# Altium schematic symbol library RC_ControllerV.2.SchLib: 52 symbols (part 1 of 2)
Pins are listed as number, name and electrical type; pins without a type are passive.

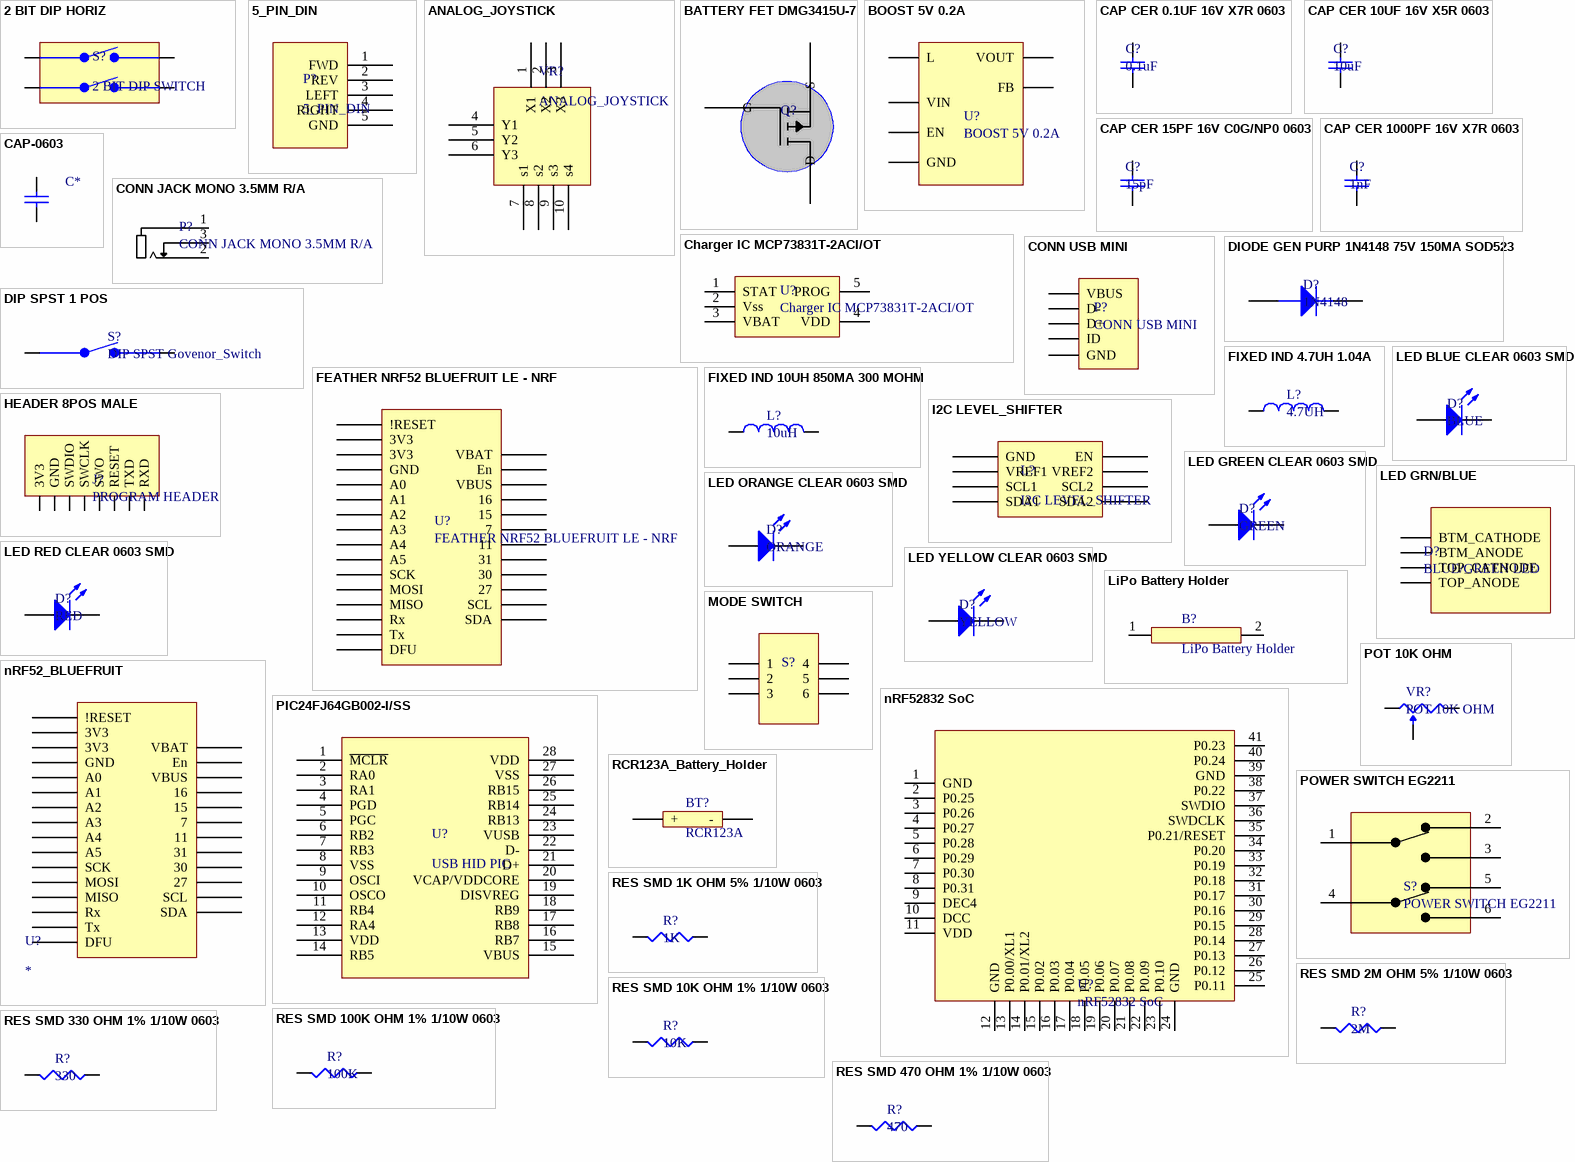
[diagram p0: symbols 2 BIT DIP HORIZ to RES SMD 470 OHM 1% 1/10W 0603]

## 2 BIT DIP HORIZ
designator S?, comment 2 BIT DIP SWITCH
SWITCH RAISED ACTUATOR 2 SEC 50V; Manufacturer: CTS; Manufacturer Part Number: 209-2MS; Throw Configuration: SPST; Current Rating: 100mA; Voltage Rating (DC): 20V; Number of Positions: 2; Electrical Life: 2000Cycles; Pitch: 0.1inch; Washable: No; Supplier 1: Digi-Key; Stock 1: 2731; Pricing 1: 1=0.55, 10=0.538, 25=0.5068, 50=0.4758, 100=0.4551, 250=0.4344, 500=0.39302, 1000=0.36199, 5000=0.29476 (USD); Mount: Through Hole; Contact Material: Copper; Contact Plating: Tin,Gold; Min Operating Temperature: -40°C; Max Operating Temperature: 85°C; Packaging: Rail/Tube; Package Quantity: 85; Max Current Rating: 100mA; Termination: PC Pin; Orientation: Straight; Length: 0.258inch; Terminal Pitch: 2.54mm; Depth: 8mm; Radiation Hardening: No; Lead Free: Lead Free; ComponentLink1URL: https://datasheet.ciiva.com/29881/209-210-29881865.pdf; ComponentLink1Description: https://datasheet.ciiva.com/29881/209-210-29881865.pdf; ComponentLink2URL: https://datasheet.ciiva.com/2863/209-210-2863466.pdf; ComponentLink2Description: https://datasheet.ciiva.com/2863/209-210-2863466.pdf; ComponentLink3URL: https://datasheet.ciiva.com/16213/209-210-16213770.pdf; ComponentLink3Description: https://datasheet.ciiva.com/16213/209-210-16213770.pdf
footprint 2 BIT DIP HORIZ
pins: 1, 2, 3, 4

## 5_PIN_DIN
designator P?
5 Position Circular Connector Receptacle, Female Sockets Solder Tin; Manufacturer: CUI; Manufacturer Part Number: SDS-50J; Current Rating: 1A; Connector Type: Jack; Number of Positions: 5; Shielding: Unshielded; Supplier 1: Digi-Key; Stock 1: 10312; Pricing 1: 1=1.57, 10=1.421, 25=1.334, 50=1.276, 100=1.218, 250=1.102, 500=1.015, 1000=0.87, 2500=0.812 (USD); Mount: Through Hole; Contact Plating: Tin; Contact Material: Brass; Insulation Material: Plastic; Min Operating Temperature: -40°C; Max Operating Temperature: 85°C; Fastening Type: Push,Pull; Packaging: Bulk; Termination: Solder; Orientation: Horizontal; Number of Contacts: 5; Package Quantity: 250; Lead Free: Lead Free; ComponentLink1URL: https://datasheet.ciiva.com/16485/sds001-16485548.pdf; ComponentLink1Description: https://datasheet.ciiva.com/16485/sds001-16485548.pdf; Supplier Part Number 1: CP-2350-ND
footprint 5_PIN_DIN
pins: 1 FWD, 2 REV, 3 LEFT, 4 RIGHT, 5 GND

## ANALOG_JOYSTICK
designator VR?
Analog Joystick; Manufacturer: SparkFun; Manufacturer Part Number: COM-09032; Supplier 1: Digi-Key; Stock 1: 679; Pricing 1: 1=3.95 (USD); ComponentLink1URL: http://media.digikey.com/pdf/Data%20Sheets/Sparkfun%20PDFs/COM-09032_Web.pdf; ComponentLink1Description: http://media.digikey.com/pdf/Data%20Sheets/Sparkfun%20PDFs/COM-09032_Web.pdf; Supplier Part Number 1: 1568-1526-ND
footprint ANALOG_JOYSTICK
pins: 1 X1, 2 X2, 3 X3, 4 Y1, 5 Y2, 6 Y3, 7 s1, 8 s2, 9 s3, 10 s4

## BATTERY FET DMG3415U-7
designator Q?, comment MOSFET P-CH 20V 4A SOT-23  (value not drawn)
Manufacturer: Diodes Incorporated; Manufacturer Part Number: DMG3415U-7; FET Type: P-Channel; Current - Continuous Drain (Id) @ 25°C: 4A (Ta); Drive Voltage (Max Rds On,  Min Rds On): 1.8V, 4.5V; Vgs(th) (Max) @ Id: 1V @ 250µA; Vgs (Max): ±8V; Power Dissipation (Max): 900mW (Ta); Rds On (Max) @ Id, Vgs: 39 mOhm @ 4A, 4.5V; Supplier 1: Digi-Key; RoHS: RoHS Compliant; Category: Discrete Semiconductor Products; Stock 1: 0; Pricing 1: 1=0.56, 10=0.397, 100=0.2606, 500=0.15398, 1000=0.11845 (USD); Packaging: Cut Tape (CT); Part Status: Active; Technology: MOSFET (Metal Oxide); FET Feature: -; Operating Temperature: -55°C ~ 150°C (TJ); Mounting Type: Surface Mount; Supplier Device Package: SOT-23-3; Package / Case: TO-236-3, SC-59, SOT-23-3; ComponentLink1URL: https://www.diodes.com/assets/Datasheets/ds31735.pdf; ComponentLink1Description: https://www.diodes.com/assets/Datasheets/ds31735.pdf; Supplier Part Number 1: DMG3415UDICT-ND
footprint DMG3415U (SOT23, 3-Leads, Body 2.90x2.40mm, Pitch 0.95mm, IPC Medium Density)
pins: 1 G, 2 S, 3 D

## BOOST 5V 0.2A
designator U?
IC REG BOOST 5V 0.2A SYNC SC70-6; Manufacturer: Texas Instruments; Manufacturer Part Number: TPS61222DCKR; Function: Step-Up; Output Configuration: Positive; Output Type: Fixed; Number of Outputs: 1; Voltage - Input (Min): 0.7V; Voltage - Input (Max): 5.5V; Current - Output: 200mA (Switch); Frequency - Switching: Up to 2MHz; Synchronous Rectifier: Yes; Supplier 1: Digi-Key; RoHS: RoHS Compliant; Category: Integrated Circuits (ICs); Stock 1: 39703; Pricing 1: 1=1.14, 10=1.015, 100=0.7912, 500=0.65364, 1000=0.51603 (USD); Packaging: Cut Tape (CT); Part Status: Active; Topology: Boost; Voltage - Output (Min/Fixed): 5V; Voltage - Output (Max): -; Operating Temperature: -40°C ~ 125°C (TJ); Mounting Type: Surface Mount; Package / Case: 6-TSSOP, SC-88, SOT-363; Supplier Device Package: SC-70-6; ComponentLink1URL: http://www.ti.com/lit/ds/symlink/tps61220.pdf; ComponentLink1Description: http://www.ti.com/lit/ds/symlink/tps61220.pdf; Supplier Part Number 1: 296-39435-1-ND
footprint 5V Boost REG
pins: 1 VIN, 2 GND, 3 EN, 4 FB, 5 VOUT, 6 L

## CAP CER 0.1UF 16V X7R 0603
designator C?, comment 0.1uF
CAP CER 0.1UF 16V X7R 0603; Manufacturer: Yageo; Manufacturer Part Number: CC0603KRX7R7BB104; Tolerance: ±10%; Notification: Current market demand for these product types have resulted in fluctuating and extending lead times. Lead times may differ.; Supplier 1: Digi-Key; RoHS: RoHS Compliant; Category: Capacitors; Stock 1: 40000; Pricing 1: 1=0.1, 10=0.074, 100=0.0329, 500=0.02352, 1000=0.01848 (USD); Packaging: Cut Tape (CT); Part Status: Active; Voltage - Rated: 16V; Temperature Coefficient: X7R; Operating Temperature: -55°C ~ 125°C; Features: -; Ratings: -; Applications: General Purpose; Failure Rate: -; Mounting Type: Surface Mount, MLCC; Package / Case: 0603 (1608 Metric); Size / Dimension: 0.063" L x 0.032" W (1.60mm x 0.80mm); Height - Seated (Max): -; Thickness (Max): 0.035" (0.90mm); Lead Spacing: -; Lead Style: -; ComponentLink1URL: http://www.yageo.com/documents/recent/UPY-GPHC_X7R_6.3V-to-50V_18.pdf; ComponentLink1Description: http://www.yageo.com/documents/recent/UPY-GPHC_X7R_6.3V-to-50V_18.pdf; Supplier Part Number 1: 311-1088-1-ND
footprint CAP-0603
pins: 1, 2

## CAP CER 10UF 16V X5R 0603
designator C?, comment 10uF
CAP CER 10UF 16V X5R 0603; Manufacturer: Murata Electronics North America; Manufacturer Part Number: GRM188R61C106MAALD; Tolerance: ±20%; Notification: Current market demand for these product types have resulted in fluctuating and extending lead times. Lead times may differ.; Supplier 1: Digi-Key; RoHS: RoHS Compliant; Category: Capacitors; Stock 1: 14007; Pricing 1: 1=0.47, 10=0.329, 100=0.1975, 500=0.14814, 1000=0.12509 (USD); Packaging: Cut Tape (CT); Part Status: Active; Voltage - Rated: 16V; Temperature Coefficient: X5R; Operating Temperature: -55°C ~ 85°C; Features: -; Ratings: -; Applications: General Purpose; Mounting Type: Surface Mount, MLCC; Package / Case: 0603 (1608 Metric); Size / Dimension: 0.063" L x 0.032" W (1.60mm x 0.80mm); Height - Seated (Max): -; Thickness (Max): 0.037" (0.95mm); Lead Spacing: -; Lead Style: -; ComponentLink1URL: http://search.murata.co.jp/Ceramy/image/img/A01X/G101/ENG/GRM188R61C106MAAL-01.pdf; ComponentLink1Description: http://search.murata.co.jp/Ceramy/image/img/A01X/G101/ENG/GRM188R61C106MAAL-01.pdf; Supplier Part Number 1: 490-10470-1-ND
footprint CAP-0603
pins: 1, 2

## CAP CER 15PF 16V C0G/NP0 0603
designator C?, comment 15pF
CAP CER 15PF 16V C0G/NP0 0603; Manufacturer: Wurth Electronics Inc.; Manufacturer Part Number: 885012006018; Tolerance: ±5%; Temperature Coefficient: C0G, NP0; Notification: Current market demand for these product types have resulted in fluctuating and extending lead times. Lead times may differ.; Supplier 1: Digi-Key; RoHS: RoHS Compliant; Category: Capacitors; Stock 1: 1849; Pricing 1: 1=0.1, 10=0.03, 100=0.0267, 500=0.0236 (USD); Packaging: Cut Tape (CT); Part Status: Active; Voltage - Rated: 16V; Operating Temperature: -55°C ~ 125°C; Features: -; Ratings: -; Applications: General Purpose; Mounting Type: Surface Mount, MLCC; Package / Case: 0603 (1608 Metric); Size / Dimension: 0.063" L x 0.032" W (1.60mm x 0.80mm); Height - Seated (Max): -; Thickness (Max): 0.034" (0.87mm); Lead Spacing: -; Lead Style: -; ComponentLink1URL: http://katalog.we-online.de/pbs/datasheet/885012006018.pdf; ComponentLink1Description: http://katalog.we-online.de/pbs/datasheet/885012006018.pdf; Supplier Part Number 1: 732-7761-1-ND
footprint CAP-0603
pins: 1, 2

## CAP CER 1000PF 16V X7R 0603
designator C?, comment 1nF
CAP CER 1000PF 16V X7R 0603; Manufacturer: Wurth Electronics Inc.; Manufacturer Part Number: 885012206034; Tolerance: ±10%; Notification: Current market demand for these product types have resulted in fluctuating and extending lead times. Lead times may differ.; Supplier 1: Digi-Key; RoHS: RoHS Compliant; Category: Capacitors; Stock 1: 3386; Pricing 1: 1=0.1, 10=0.021, 100=0.0192, 500=0.017 (USD); Packaging: Cut Tape (CT); Part Status: Active; Voltage - Rated: 16V; Temperature Coefficient: X7R; Operating Temperature: -55°C ~ 125°C; Features: -; Ratings: -; Applications: General Purpose; Mounting Type: Surface Mount, MLCC; Package / Case: 0603 (1608 Metric); Size / Dimension: 0.063" L x 0.032" W (1.60mm x 0.80mm); Height - Seated (Max): -; Thickness (Max): 0.034" (0.87mm); Lead Spacing: -; Lead Style: -; ComponentLink1URL: http://katalog.we-online.de/pbs/datasheet/885012206034.pdf; ComponentLink1Description: http://katalog.we-online.de/pbs/datasheet/885012206034.pdf; Supplier Part Number 1: 732-7953-1-ND
footprint CAP-0603
pins: 1, 2

## CAP-0603
designator C*
footprint CAP-0603
pins: 1, 2

## Charger IC MCP73831T-2ACI/OT
designator U?
IC CONTROLLR LI-ION 4.2V SOT23-5; Manufacturer: Microchip Technology; Battery Chemistry: Lithium-Ion/Polymer; Number of Cells: 1; Current - Charging: Constant - Programmable; Programmable Features: Current; Fault Protection: Over Voltage; Charge Current - Max: 500mA; Voltage - Supply (Max): 6V; Supplier 1: Digi-Key; Manufacturer Part Number: MCP73831T-2ACI/OT; RoHS: RoHS Compliant; Category: Integrated Circuits (ICs); Stock 1: 44995; Pricing 1: 1=0.58, 25=0.484, 100=0.4326 (USD); Packaging: Cut Tape (CT); Part Status: Active; Battery Pack Voltage: 4.2V; Interface: -; Operating Temperature: -40°C ~ 85°C (TA); Package / Case: SC-74A, SOT-753; Supplier Device Package: SOT-23-5; Base Part Number: MCP73831; ComponentLink1URL: http://ww1.microchip.com/downloads/en/DeviceDoc/20001984g.pdf; ComponentLink1Description: http://ww1.microchip.com/downloads/en/DeviceDoc/20001984g.pdf; Supplier Part Number 1: MCP73831T-2ACI/OTCT-ND
footprint Battery CHRG MCP73832 (Single cell LiPO Charge Managment IC)
pins: 1 STAT, 2 Vss, 3 VBAT, 4 VDD, 5 PROG

## CONN JACK MONO 3.5MM R/A
designator P?
Manufacturer: CUI Inc.; Manufacturer Part Number: MJ-3536NG; Connector Type: Phone Jack; Gender: Female; Industry Recognized Mating Diameter: 3.50mm (0.141", 1/8", Mini Plug) - Headphone; Actual Diameter: 0.142" (3.60mm); Number of Positions/Contacts: 2 Conductors, 3 Contacts; Internal Switch(s): Single Switch; Shielding: Unshielded; Voltage - Rated: 12VDC; Body Material: Brass; Body Color: Black; Supplier 1: Digi-Key; RoHS: RoHS Compliant; Category: Connectors, Interconnects; Stock 1: 11915; Pricing 1: 1=0.97, 10=0.85, 25=0.8004, 50=0.767, 100=0.7337, 250=0.667, 500=0.6003, 1000=0.5336, 2500=0.48358 (USD); Packaging: Bulk; Part Status: Active; Signal Lines: Mono; Mounting Type: Through Hole, Right Angle; Termination: Solder Eyelet(s); Features: -; Insulation Color: -; Mating Length/Depth: -; Contact Material - Plating: Tin; Includes: -; Housing Material: Polybutylene Terephthalate (PBT); Contact Material: Brass; Copper Alloy; Cable Opening: -; Panel Hole Size: -; Thread Size: -; Operating Temperature: -; ComponentLink1URL: https://www.cui.com/product/resource/digikeypdf/mj-3536ng.pdf; ComponentLink1Description: https://www.cui.com/product/resource/digikeypdf/mj-3536ng.pdf; Supplier Part Number 1: CP-3536NG-ND
footprint Barrel Jack
pins: 1, 2, 3

## CONN USB MINI
designator P?
CONN USB RECEPTACLE 5POS RT ANG; Manufacturer: Molex, LLC; Manufacturer Part Number: 0548190519; Connector Type: USB - mini B; Number of Contacts: 5; Specifications: USB 2.0 OTG; Current Rating: 1A; Voltage - Rated: 30V; Mating Cycles: 5000; Shielding: Shielded; Material Flammability Rating: UL94 V-0; Supplier 1: Digi-Key; RoHS: RoHS Compliant; Category: Connectors, Interconnects; Stock 1: 18079; Pricing 1: 1=1.64, 10=1.485, 25=1.394, 50=1.3332, 100=1.2726, 250=1.1514, 500=1.0605, 1000=0.909, 2500=0.8484 (USD); Packaging: Tray; Part Status: Active; Gender: Receptacle; Mounting Type: Through Hole, Right Angle; Mounting Feature: Horizontal; Termination: Solder; Features: -; Ingress Protection: -; Operating Temperature: -20°C ~ 85°C; Contact Finish: Gold; Shell/Shielding Material: Copper Alloy; Insulation Color: Black; ComponentLink1URL: https://www.molex.com/pdm_docs/sd/548190519_sd.pdf; ComponentLink1Description: https://www.molex.com/pdm_docs/sd/548190519_sd.pdf; Supplier Part Number 1: WM17115-ND
footprint CONN USB Mini
pins: 1 VBUS, 2 D-, 3 D+, 4 ID, 5 GND

## DIODE GEN PURP 1N4148 75V 150MA SOD523
designator D?, comment 1N4148
DIODE GEN PURP 75V 150MA SOD523; Manufacturer: Micro Commercial Co; Manufacturer Part Number: 1N4148X-TP; Diode Type: Standard; Speed: Small Signal =< 200mA (Io), Any Speed; Capacitance @ Vr, F: 2pF @ 0V, 1MHz; Supplier 1: Digi-Key; RoHS: RoHS Compliant; Category: Discrete Semiconductor Products; Stock 1: 760127; Pricing 1: 1=0.14, 10=0.131, 100=0.0856, 500=0.04186, 1000=0.02854 (USD); Packaging: Cut Tape (CT); Part Status: Active; Current - Average Rectified (Io): 150mA; Mounting Type: Surface Mount; Package / Case: SC-79, SOD-523; Supplier Device Package: SOD-523; Operating Temperature - Junction: -65°C ~ 150°C; Base Part Number: 1N4148; ComponentLink1URL: http://www.mccsemi.com/up_pdf/1N4148X(SOD-523).PDF; ComponentLink1Description: http://www.mccsemi.com/up_pdf/1N4148X(SOD-523).PDF; Supplier Part Number 1: 1N4148XTPMSCT-ND
footprint 1N4148
pins: 1 A, 2 K

## DIP SPST 1 POS
designator S?, comment DIP SPST Govenor_Switch
SWITCH SLIDE DIP SPST 25MA 24V; Manufacturer: Wurth Electronics Inc.; Manufacturer Part Number: 418117270901; Voltage Rating: 24VDC; Actuator Type: Slide (Standard); Actuator Level: Raised; Pitch: 0.100" (2.54mm), Full; Washable: No; Body Material: Polyamide (PA66), Nylon 6/6; Mechanical Life: 5,000 Cycles; Electrical Life: 2,000 Cycles; Supplier 1: Digi-Key; RoHS: RoHS Compliant; Category: Switches; Stock 1: 4275; Pricing 1: 1=0.88, 10=0.861, 50=0.786, 148=0.71101, 296=0.63601 (USD); Packaging: Tube; Part Status: Active; Circuit: SPST; Current Rating: 25mA; Contact Material: -; Contact Finish: Gold; Height Above Board: 0.189" (4.80mm); Mounting Type: Through Hole; Termination Style: PC Pin; Features: -; Operating Temperature: -40°C ~ 85°C; Length: 0.139" (3.54mm); ComponentLink1URL: http://katalog.we-online.de/em/datasheet/418117270901.pdf; ComponentLink1Description: http://katalog.we-online.de/em/datasheet/418117270901.pdf; Supplier Part Number 1: 732-3831-5-ND
footprint DIP SPST 1 POS
pins: 1, 2

## FEATHER NRF52 BLUEFRUIT LE - NRF
designator U?
Manufacturer: Adafruit Industries LLC; Manufacturer Part Number: 3406; Frequency: 2.4GHz; For Use With/Related Products: nRF52832; Supplied Contents: Board(s); Supplier 1: Digi-Key; RoHS: RoHS Compliant; Category: RF/IF and RFID; Stock 1: 0; Pricing 1: 1=24.95 (USD); Part Status: Active; Type: Transceiver; Bluetooth® Smart 4.x Low Energy (BLE); ComponentLink1URL: https://cdn-learn.adafruit.com/downloads/pdf/bluefruit-nrf52-feather-learning-guide.pdf; ComponentLink1Description: https://cdn-learn.adafruit.com/downloads/pdf/bluefruit-nrf52-feather-learning-guide.pdf; Supplier Part Number 1: 1528-2095-ND
footprint nRF52_BLUEFRUIT
pins: 3V3, 3V3, 7, 11, 15, 16, 27, 30, 31, !RESET, A0, A1, A2, A3, A4, A5, DFU, En, GND, MISO, MOSI, Rx, SCK, SCL, SDA, Tx, VBAT, VBUS

## FIXED IND 4.7UH 1.04A
designator L?, comment 4.7UH
FIXED IND 4.7UH 1.04A 144 MOHM; Manufacturer: Taiyo Yuden; Manufacturer Part Number: NR3015T4R7M; Type: Wirewound; Material - Core: Ferrite; Tolerance: ±20%; Shielding: Shielded; DC Resistance (DCR): 144 mOhm Max; Supplier 1: Digi-Key; RoHS: RoHS Compliant; Category: Inductors, Coils, Chokes; Stock 1: 141510; Pricing 1: 1=0.35, 10=0.313, 100=0.2151, 500=0.18378, 1000=0.14076 (USD); Packaging: Cut Tape (CT); Part Status: Active; Q @ Freq: -; Ratings: -; Operating Temperature: -25°C ~ 120°C; Mounting Type: Surface Mount; Package / Case: Nonstandard; Supplier Device Package: -; Size / Dimension: 0.118" L x 0.118" W (3.00mm x 3.00mm); Height - Seated (Max): 0.059" (1.50mm); ComponentLink1URL: https://www.yuden.co.jp/productdata/catalog/wound04_e.pdf; ComponentLink1Description: https://www.yuden.co.jp/productdata/catalog/wound04_e.pdf; Supplier Part Number 1: 587-1649-1-ND
footprint FIXED IND 4.7uH
pins: 1, 2

## FIXED IND 10UH 850MA 300 MOHM
designator L?, comment 10uH
FIXED IND 10UH 850MA 300 MOHM; Manufacturer: Wurth Electronics Inc.; Manufacturer Part Number: 74479887310A; Type: Multilayer; Tolerance: ±20%; Shielding: Shielded; Q @ Freq: 27 @ 1MHz; Supplier 1: Digi-Key; RoHS: RoHS Compliant; Category: Inductors, Coils, Chokes; Stock 1: 4288; Pricing 1: 1=1.2, 10=1.18, 50=1.066, 100=1.028, 500=0.952, 1000=0.876 (USD); Packaging: Cut Tape (CT); Part Status: Active; Material - Core: -; DC Resistance (DCR): 300 mOhm; Ratings: -; Operating Temperature: -40°C ~ 125°C; Mounting Type: Surface Mount; Package / Case: 1008 (2520 Metric); Supplier Device Package: 1008 (2520 Metric); Size / Dimension: 0.098" L x 0.079" W (2.50mm x 2.00mm); Height - Seated (Max): 0.039" (1.00mm); ComponentLink1URL: http://katalog.we-online.de/pbs/datasheet/74479887310A.pdf; ComponentLink1Description: http://katalog.we-online.de/pbs/datasheet/74479887310A.pdf; Supplier Part Number 1: 732-4516-1-ND
footprint FIXED IND 10UH 850MA 300 MOHM
pins: 1, 2

## HEADER 8POS MALE
designator J?, comment PROGRAM HEADER
CONN HEADER 8POS .100 STR 30AU; Manufacturer: Amphenol FCI; Manufacturer Part Number: 68001-108HLF; Pitch - Mating: 0.100" (2.54mm); Number of Positions: 8; Number of Positions Loaded: All; Style: Board to Board; Shrouding: Unshrouded; Contact Length - Mating: 0.230" (5.84mm); Contact Length - Post: 0.120" (3.05mm); Overall Contact Length: 0.450" (11.43mm); Material Flammability Rating: UL94 V-0; Supplier 1: Digi-Key; RoHS: RoHS Compliant; Category: Connectors, Interconnects; Stock 1: 1969; Pricing 1: 1=0.46, 10=0.436, 100=0.3342, 500=0.2906, 1000=0.23975, 5000=0.21069, 10000=0.19616 (USD); Packaging: Bulk; Part Status: Active; Connector Type: Header; Contact Type: Male Pin; Number of Rows: 1; Row Spacing - Mating: -; Mounting Type: Through Hole; Termination: Solder; Fastening Type: Push-Pull; Insulation Height: 0.100" (2.54mm); Contact Shape: Square; Contact Finish - Mating: Gold or Gold, GXT™; Contact Finish Thickness - Mating: 30.0µin (0.76µm); Contact Finish - Post: -; Contact Material: Phosphor Bronze; Insulation Material: -; Features: -; Operating Temperature: -; Ingress Protection: -; Insulation Color: Black; Current Rating: -; Voltage Rating: -; Mated Stacking Heights: -; Contact Finish Thickness - Post: -; Applications: -; ComponentLink1URL: https://cdn.amphenol-icc.com/media/wysiwyg/files/drawing/68000.pdf; ComponentLink1Description: https://cdn.amphenol-icc.com/media/wysiwyg/files/drawing/68000.pdf; Supplier Part Number 1: 609-3273-ND
footprint HEADER MALE 8POS
pins: 1 3V3, 2 GND, 3 SWDIO, 4 SWCLK, 5 SWO, 6 RESET, 7 TXD, 8 RXD

## I2C LEVEL_SHIFTER
designator L?
IC, 2BIT VOLTAGE LEVEL TRANSLATOR VSSOP8; Manufacturer: Texas Instruments; Manufacturer Part Number: PCA9306DCUR; Number of Inputs: 2; Output Current: 64mA; Propagation Delay: 1.4ns; Min Supply Voltage: 0uV; Max Supply Voltage: 5V; Turn-On Delay Time: 1.2ns; Supplier 1: Digi-Key; Stock 1: 21343; Pricing 1: 1=0.68, 10=0.598, 100=0.4586, 500=0.36256, 1000=0.29005 (USD); Case/Package: VSSOP; Number of Pins: 8; Weight: 0.000339oz; Contact Plating: Gold; Min Operating Temperature: -40°C; Max Operating Temperature: 85°C; Packaging: Tape and Reel; Package Quantity: 1; Number of Channels: 2; Number of Outputs: 2; Logic Function: Translator; Number of Bits: 2; Termination: SMD/SMT; Output Type: I2C; Length: 2.3mm; Height: 0.85mm; Width: 2mm; Radiation Hardening: No; REACH SVHC: No SVHC; Lead Free: Lead Free; ComponentLink1URL: https://datasheet.ciiva.com/1899/pca9306-1899329.pdf; ComponentLink1Description: https://datasheet.ciiva.com/1899/pca9306-1899329.pdf; ComponentLink2URL: https://datasheet.ciiva.com/1899/pca9306-1899330.pdf; ComponentLink2Description: https://datasheet.ciiva.com/1899/pca9306-1899330.pdf; ComponentLink3URL: https://datasheet.ciiva.com/1899/pca9306-1899331.pdf; ComponentLink3Description: https://datasheet.ciiva.com/1899/pca9306-1899331.pdf; ComponentLink4URL: https://datasheet.ciiva.com/14287/pca9306-14287462.pdf; ComponentLink4Description: https://datasheet.ciiva.com/14287/pca9306-14287462.pdf; ComponentLink5URL: https://datasheet.ciiva.com/30509/pca9306dcur-30509814.pdf; ComponentLink5Description: https://datasheet.ciiva.com/30509/pca9306dcur-30509814.pdf; ComponentLink6URL: https://datasheet.ciiva.com/36526/2030035-36526265.pdf; ComponentLink6Description: https://datasheet.ciiva.com/36526/2030035-36526265.pdf; ComponentLink7URL: https://datasheet.ciiva.com/1508/1815321-1508635.pdf; ComponentLink7Description: https://datasheet.ciiva.com/1508/1815321-1508635.pdf; ComponentLink8URL: https://datasheet.ciiva.com/1508/1862428-1508795.pdf; ComponentLink8Description: https://datasheet.ciiva.com/1508/1862428-1508795.pdf; Supplier Part Number 1: 296-17988-6-ND
footprint Level_Shifter - duplicate
pins: 1 GND, 2 VREF1, 3 SCL1, 4 SDA1, 5 SDA2, 6 SCL2, 7 VREF2, 8 EN

## LED BLUE CLEAR 0603 SMD
designator D?, comment BLUE
LED BLUE CLEAR 0603 SMD; Manufacturer: Lite-On Inc.; Manufacturer Part Number: LTST-C193TBKT-5A; Lens Color: Colorless; Millicandela Rating: 15mcd; Lens Style/Size: Rectangle with Flat Top, 1.15mm x 0.80mm; Voltage - Forward (Vf) (Typ): 2.8V; Current - Test: 5mA; Viewing Angle: 130°; Wavelength - Dominant: 470nm; Wavelength - Peak: 468nm; Supplier 1: Digi-Key; RoHS: RoHS Compliant; Category: Optoelectronics; Stock 1: 68862; Pricing 1: 1=0.47, 10=0.336, 25=0.2572, 100=0.1678, 250=0.12304, 500=0.10442, 1000=0.08577 (USD); Packaging: Cut Tape (CT); Part Status: Active; Color: Blue; Lens Transparency: Clear; Mounting Type: Surface Mount; Features: -; Package / Case: 0603 (1608 Metric); Supplier Device Package: Chip LED; Size / Dimension: 1.60mm L x 0.80mm W; Height (Max): 0.45mm; ComponentLink1URL: https://media.digikey.com/pdf/Data%20Sheets/Lite-On%20PDFs/LTST-C193TBKT-5A.pdf; ComponentLink1Description: https://media.digikey.com/pdf/Data%20Sheets/Lite-On%20PDFs/LTST-C193TBKT-5A.pdf; Supplier Part Number 1: 160-1827-1-ND
footprint LED BLUE 0603 SMD
pins: 1 A, 2 K

## LED GREEN CLEAR 0603 SMD
designator D?, comment GREEN
LED GREEN CLEAR 0603 SMD; Manufacturer: Lite-On Inc.; Manufacturer Part Number: LTST-C191KGKT; Lens Color: Colorless; Millicandela Rating: 35mcd; Lens Style/Size: Rectangle with Flat Top, 1.10mm x 0.80mm; Voltage - Forward (Vf) (Typ): 2V; Current - Test: 20mA; Viewing Angle: 130°; Wavelength - Dominant: 571nm; Wavelength - Peak: 574nm; Supplier 1: Digi-Key; RoHS: RoHS Compliant; Category: Optoelectronics; Stock 1: 1026105; Pricing 1: 1=0.29, 10=0.211, 25=0.1556, 100=0.1111, 250=0.07556, 500=0.06666, 1000=0.05222, 2500=0.05111 (USD); Packaging: Cut Tape (CT); Part Status: Active; Color: Green; Lens Transparency: Clear; Mounting Type: Surface Mount; Features: -; Package / Case: 0603 (1608 Metric); Size / Dimension: 1.60mm L x 0.80mm W; Height (Max): 0.55mm; ComponentLink1URL: http://optoelectronics.liteon.com/upload/download/DS22-2000-228/LTST-C191KGKT.PDF; ComponentLink1Description: http://optoelectronics.liteon.com/upload/download/DS22-2000-228/LTST-C191KGKT.PDF; Supplier Part Number 1: 160-1446-1-ND
footprint LED GREEN  0603 SMD
pins: 1 A, 2 K

## LED GRN/BLUE
designator D?, comment BLUE/GREEN LED
LED 3MM BI-LEVEL GRN/BLUE PC MNT; Manufacturer: Dialight; Manufacturer Part Number: 5530128F; Color: Blue (x 1), Green (x 1); Wavelength - Peak: 428nm, 563nm; Configuration: 2 High; Millicandela Rating: 13.15mcd Blue, 16mcd Green; Lens Style/Size: Round with Domed Top, 3mm (T-1); Voltage Rating: 3.5V Blue, 2.1V Green; Supplier 1: Digi-Key; RoHS: RoHS Compliant; Category: Optoelectronics; Stock 1: 145; Pricing 1: 1=4.77, 10=3.978, 25=3.3412, 100=2.8638, 250=2.5456, 500=2.30696, 1000=2.11603, 2500=2.02852, 5000=1.98875 (USD); Packaging: Bulk; Part Status: Active; Current: -; Viewing Angle: -; Lens Type: -; Mounting Type: Through Hole, Right Angle; ComponentLink1URL: http://www.dialightsignalsandcomponents.com/Assets/Drawings/2D_Drawings_DrawingDetailedSpec/C17277.pdf; ComponentLink1Description: http://www.dialightsignalsandcomponents.com/Assets/Drawings/2D_Drawings_DrawingDetailedSpec/C17277.pdf; Supplier Part Number 1: 350-3113-ND
footprint LED-Dual GRN/BLUE (350-3113-ND)
pins: 1 BTM_CATHODE, 2 BTM_ANODE, 3 TOP_CATHODE, 4 TOP_ANODE

## LED ORANGE CLEAR 0603 SMD
designator D?, comment ORANGE
LED ORANGE CLEAR 0603 SMD; Manufacturer: Lite-On Inc.; Manufacturer Part Number: LTST-C191KFKT; Lens Color: Colorless; Millicandela Rating: 90mcd; Lens Style/Size: Rectangle with Flat Top, 1.10mm x 0.80mm; Voltage - Forward (Vf) (Typ): 2V; Current - Test: 20mA; Viewing Angle: 130°; Wavelength - Dominant: 605nm; Wavelength - Peak: 611nm; Supplier 1: Digi-Key; RoHS: RoHS Compliant; Category: Optoelectronics; Stock 1: 196958; Pricing 1: 1=0.27, 10=0.196, 25=0.1448, 100=0.1034, 250=0.07032, 500=0.06204, 1000=0.0486, 2500=0.04756 (USD); Packaging: Cut Tape (CT); Part Status: Active; Color: Orange; Lens Transparency: Clear; Mounting Type: Surface Mount; Features: -; Package / Case: 0603 (1608 Metric); Size / Dimension: 1.60mm L x 0.80mm W; Height (Max): 0.55mm; ComponentLink1URL: http://optoelectronics.liteon.com/upload/download/DS22-2000-222/LTST-C191KFKT.pdf; ComponentLink1Description: http://optoelectronics.liteon.com/upload/download/DS22-2000-222/LTST-C191KFKT.pdf; Supplier Part Number 1: 160-1445-1-ND
footprint LED ORANAGE 0603 SMD
pins: 1 A, 2 K

## LED RED CLEAR 0603 SMD
designator D?, comment RED
LED RED CLEAR 0603 SMD; Manufacturer: Lite-On Inc.; Manufacturer Part Number: LTST-C191KRKT; Lens Color: Colorless; Millicandela Rating: 54mcd; Lens Style/Size: Rectangle with Flat Top, 1.10mm x 0.80mm; Voltage - Forward (Vf) (Typ): 2V; Current - Test: 20mA; Viewing Angle: 130°; Wavelength - Dominant: 631nm; Wavelength - Peak: 639nm; Supplier 1: Digi-Key; RoHS: RoHS Compliant; Category: Optoelectronics; Stock 1: 1030007; Pricing 1: 1=0.29, 10=0.211, 25=0.1556, 100=0.1111, 250=0.07556, 500=0.06666, 1000=0.05222, 2500=0.05111 (USD); Packaging: Cut Tape (CT); Part Status: Active; Color: Red; Lens Transparency: Clear; Mounting Type: Surface Mount; Features: -; Package / Case: 0603 (1608 Metric); Size / Dimension: 1.60mm L x 0.80mm W; Height (Max): 0.65mm; ComponentLink1URL: http://optoelectronics.liteon.com/upload/download/DS22-2000-223/LTST-C191KRKT.PDF; ComponentLink1Description: http://optoelectronics.liteon.com/upload/download/DS22-2000-223/LTST-C191KRKT.PDF; Supplier Part Number 1: 160-1447-1-ND
footprint LED RED 0603 SMD
pins: 1 A, 2 K

## LED YELLOW CLEAR 0603 SMD
designator D?, comment YELLOW
LED YELLOW CLEAR 0603 SMD; Manufacturer: Lite-On Inc.; Manufacturer Part Number: LTST-C191KSKT; Lens Color: Colorless; Millicandela Rating: 104mcd; Lens Style/Size: Rectangle with Flat Top, 1.10mm x 0.80mm; Voltage - Forward (Vf) (Typ): 2.1V; Current - Test: 20mA; Viewing Angle: 130°; Wavelength - Dominant: 591nm; Wavelength - Peak: 588nm; Supplier 1: Digi-Key; RoHS: RoHS Compliant; Category: Optoelectronics; Stock 1: 805888; Pricing 1: 1=0.31, 10=0.225, 25=0.1656, 100=0.1183, 250=0.0804, 500=0.07096, 1000=0.05558, 2500=0.0544 (USD); Packaging: Cut Tape (CT); Part Status: Active; Color: Yellow; Lens Transparency: Clear; Mounting Type: Surface Mount; Features: -; Package / Case: 0603 (1608 Metric); Size / Dimension: 1.60mm L x 0.80mm W; Height (Max): 0.55mm; ComponentLink1URL: http://optoelectronics.liteon.com/upload/download/DS22-2000-224/LTST-C191KSKT.PDF; ComponentLink1Description: http://optoelectronics.liteon.com/upload/download/DS22-2000-224/LTST-C191KSKT.PDF; Supplier Part Number 1: 160-1448-1-ND
footprint LED YELLOW 0603 SMD
pins: 1 A, 2 K

## LiPo Battery Holder
designator B?
HOLDER BATTERY 1CELL 18650 TH; Manufacturer: Keystone Electronics; Manufacturer Part Number: 1043; Body Material: Nylon; Number of Cells: 1; Supplier 1: Digi-Key; Stock 1: 1504; Pricing 1: 1=2.16, 10=1.839, 50=1.6512, 100=1.5761, 250=1.426, 500=1.3134, 1000=1.1258, 2500=1.0507, 5000=1.007 (USD); Mount: Through Hole,PCB; Number of Pins: 1; Contact Plating: Gold; Material: Nylon; Contact Material: Nickel,Stainless Steel; Min Operating Temperature: -50°C; Max Operating Temperature: 145°C; Package Quantity: 50; Packaging: Tray; Termination: PC Pin; ComponentLink1URL: https://datasheet.ciiva.com/4/1043-4710.pdf; ComponentLink1Description: https://datasheet.ciiva.com/4/1043-4710.pdf; ComponentLink2URL: https://datasheet.ciiva.com/3353/1043-eng-tds-3353208.pdf; ComponentLink2Description: https://datasheet.ciiva.com/3353/1043-eng-tds-3353208.pdf; ComponentLink3URL: https://datasheet.ciiva.com/4642/1043-4642493.pdf; ComponentLink3Description: https://datasheet.ciiva.com/4642/1043-4642493.pdf; ComponentLink4URL: https://datasheet.ciiva.com/41803/1043-41803215.pdf; ComponentLink4Description: https://datasheet.ciiva.com/41803/1043-41803215.pdf; Supplier Part Number 1: KEY1014-ND
footprint LiPo Battery Holder
pins: 1, 2

## MODE SWITCH
designator S?  (value not drawn)
SWITCH PUSH DPDT 0.1A 30V; Manufacturer: E-Switch; Manufacturer Part Number: PBH2UOANAGX; Switch Function: On-Mom; Current Rating: 100mA (DC); Actuator Type: Plunger for Cap; Color - Actuator/Cap: White; Mechanical Life: 30,000 Cycles; Electrical Life: 10,000 Cycles; Supplier 1: Digi-Key; RoHS: RoHS Compliant; Category: Switches; Stock 1: 9803; Pricing 1: 1=1.24, 10=1.153, 25=1.098, 50=1.0432, 100=1.0157, 250=0.9882, 500=0.9333, 1000=0.8784, 5000=0.74115 (USD); Packaging: Bulk; Part Status: Active; Type: Standard; Circuit: DPDT; Illumination Type, Color: -; Illumination Voltage (Nominal): -; Mounting Type: Through Hole, Right Angle; Termination Style: PC Pin; Ingress Protection: -; Features: -; Panel Cutout Dimensions: -; Operating Temperature: -20°C ~ 70°C; ComponentLink1URL: http://spec_sheets.e-switch.com/specs/Q960001.pdf; ComponentLink1Description: http://spec_sheets.e-switch.com/specs/Q960001.pdf; Supplier Part Number 1: EG2654-ND
footprint MODE SELECT SWITCH
pins: 1, 2, 3, 4, 5, 6

## nRF52_BLUEFRUIT
designator U?
footprint nRF52_BLUEFRUIT
pins: 3V3, 3V3, 7, 11, 15, 16, 27, 30, 31, !RESET, A0, A1, A2, A3, A4, A5, DFU, En, GND, MISO, MOSI, Rx, SCK, SCL, SDA, Tx, VBAT, VBUS

## nRF52832 SoC
designator U?
MDBT42Q NRF52832 BASED BLE MODUL; Manufacturer: Seeed Technology Co., Ltd; Manufacturer Part Number: 317030213; RF Family/Standard: Bluetooth; Protocol: Bluetooth v4.2; Frequency: 2.4GHz; Data Rate: 2Mbps; Power - Output: 4dBm; Serial Interfaces: I²C, I²S, SPI, UART; Antenna Type: Integrated, Chip; Memory Size: 512kB Flash, 64kB RAM; Voltage - Supply: 1.7 V ~ 3.6 V; Current - Receiving: 13mA; Current - Transmitting: 11.6mA; Supplier 1: Digi-Key; RoHS: RoHS Compliant; Category: RF/IF and RFID; Stock 1: 604; Pricing 1: 1=10.1 (USD); Packaging: Bulk; Part Status: Active; Modulation: -; Sensitivity: -; Utilized IC / Part: nRF52832; Mounting Type: Surface Mount; Operating Temperature: -40°C ~ 85°C; Package / Case: 41-SMD Module; ComponentLink1URL: http://statics3.seeedstudio.com/assets/file/bazaar/product/MDBT42Q-Version_B.pdf; ComponentLink1Description: http://statics3.seeedstudio.com/assets/file/bazaar/product/MDBT42Q-Version_B.pdf; Supplier Part Number 1: 1597-1434-ND
footprint nRF52832 SoC
pins: 1 GND, 2 P0.25, 3 P0.26, 4 P0.27, 5 P0.28, 6 P0.29, 7 P0.30, 8 P0.31, 9 DEC4, 10 DCC, 11 VDD, 12 GND, 13 P0.00/XL1, 14 P0.01/XL2, 15 P0.02, 16 P0.03, 17 P0.04, 18 P0.05, 19 P0.06, 20 P0.07, 21 P0.08, 22 P0.09, 23 P0.10, 24 GND, 25 P0.11, 26 P0.12, 27 P0.13, 28 P0.14, 29 P0.15, 30 P0.16, 31 P0.17, 32 P0.18, 33 P0.19, 34 P0.20, 35 P0.21/RESET, 36 SWDCLK, 37 SWDIO, 38 P0.22, 39 GND, 40 P0.24, 41 P0.23

## PIC24FJ64GB002-I/SS
designator U?, comment USB HID PIC
16-bit Microcontrollers - MCU 16b 16MIPS 64KB FL 8KBRAM XLP USB OTG; Manufacturer: Microchip; Manufacturer Part Number: PIC24FJ64GB002-I/SS; Frequency: 32MHz; Interface: I2C,SPI,USB,IrDA,UART,USART; RAM Size: 8KB; Max Supply Voltage: 3.6V; Min Supply Voltage: 2V; Number of I/Os: 21; Number of Timers/Counters: 5; Number of ADC Channels: 9; Number of SPI Channels: 2; Watchdog Timer: Yes; Memory Type: FLASH; Peripherals: POR,PWM,WDT,LVD; Supplier 1: Digi-Key; Stock 1: 3981; Pricing 1: 1=3.61, 25=3.318, 100=2.9998 (USD); Mount: Surface Mount; Case/Package: SSOP; Number of Pins: 28; Min Operating Temperature: -40°C; Max Operating Temperature: 85°C; Packaging: Rail/Tube; Package Quantity: 47; Number of Programmable I/O: 21; Data Bus Width: 16b; Max Frequency: 32MHz; Number of I2C Channels: 2; Number of PWM Channels: 5; Memory Size: 64KB; Number of UART Channels: 2; Core Architecture: PIC; Length: 10.5mm; Height: 1.85mm; Width: 5.6mm; Radiation Hardening: No; Lead Free: Lead Free; ComponentLink1URL: https://datasheet.ciiva.com/6640/39940d-6640032.pdf; ComponentLink1Description: https://datasheet.ciiva.com/6640/39940d-6640032.pdf; ComponentLink2URL: https://datasheet.ciiva.com/16286/filehandler-aspxddocname-en544251-16286499.pdf; ComponentLink2Description: https://datasheet.ciiva.com/16286/filehandler-aspxddocname-en544251-16286499.pdf; Supplier Part Number 1: PIC24FJ64GB002-I/SS-ND
footprint PIC24FJ64GB002-I/SS
pins: 1 ~{MCLR}, 2 RA0, 3 RA1, 4 PGD, 5 PGC, 6 RB2, 7 RB3, 8 VSS, 9 OSCI, 10 OSCO, 11 RB4, 12 RA4, 13 VDD, 14 RB5, 15 VBUS, 16 RB7, 17 RB8, 18 RB9, 19 DISVREG, 20 VCAP/VDDCORE, 21 D+, 22 D-, 23 VUSB, 24 RB13, 25 RB14, 26 RB15, 27 VSS, 28 VDD

## POT 10K OHM
designator VR?
TRIMMER 10K OHM 0.5W PC PIN; Manufacturer: Bourns Inc.; Manufacturer Part Number: 3386W-1-103RLF; Power (Watts): 0.5W, 1/2W; Tolerance: ±10%; Temperature Coefficient: ±100ppm/°C; Adjustment Type: Side Adjustment; Resistive Material: Cermet; Supplier 1: Digi-Key; RoHS: RoHS Compliant; Category: Potentiometers, Variable Resistors; Stock 1: 630; Pricing 1: 1=2.21, 10=1.946, 25=1.7448, 50=1.6776, 100=1.6104, 250=1.54332, 500=1.2749 (USD); Packaging: Cut Tape (CT); Part Status: Active; Mounting Type: Through Hole; Termination Style: PC Pins; Size / Dimension: Square - 0.375" x 0.375" Face x 0.375" H (9.53mm x 9.53mm x 9.53mm); ComponentLink1URL: http://www.bourns.com/docs/Product-Datasheets/3386.pdf; ComponentLink1Description: http://www.bourns.com/docs/Product-Datasheets/3386.pdf; Supplier Part Number 1: 3386W-1-103RLFCT-ND
footprint Potentiometer 10K
pins: 1, 2, 3

## POWER SWITCH EG2211
designator S?
SWITCH SLIDE DPDT 200MA 30V; Manufacturer: E-Switch; Contact Timing: Not Specified; Switch Function: On-On; Current Rating: 200mA (DC); Actuator Type: Standard; Actuator Length: 4.00mm; Switch Travel: 2.00mm; Operating Force: 250gf; Supplier 1: Digi-Key; Manufacturer Part Number: EG2211; RoHS: RoHS Compliant; Category: Switches; Stock 1: 23507; Pricing 1: 1=0.73, 10=0.698, 25=0.684, 50=0.6112, 100=0.582, 250=0.56744, 500=0.48016, 1000=0.4656, 5000=0.4074 (USD); Packaging: Bulk; Part Status: Active; Circuit: DPDT; Contact Material: Copper Alloy; Contact Finish: Silver; Mounting Type: Through Hole, Right Angle; Termination Style: PC Pin; Features: -; Operating Temperature: -20°C ~ 70°C; Actuator Material: -; Mechanical Life: -; Electrical Life: -; ComponentLink1URL: http://spec_sheets.e-switch.com/specs/P040140.pdf; ComponentLink1Description: http://spec_sheets.e-switch.com/specs/P040140.pdf; Supplier Part Number 1: EG1943-ND
footprint SWITCH-SLIDE-DPDT-TH-RIGHTANGLE-EG2211
pins: 1, 2, 3, 4, 5, 6

## RCR123A_Battery_Holder
designator BT?, comment RCR123A
BATTERY HOLDER CR123A THRU MT; Manufacturer: Keystone Electronics; Manufacturer Part Number: 1051; Battery Type, Function: Cylindrical, Holder; Style: Holder (Open); Number of Cells: 1; Supplier 1: Digi-Key; RoHS: RoHS Compliant; Category: Battery Products; Stock 1: 14140; Pricing 1: 1=1.76, 10=1.437, 50=1.2904, 100=1.2317, 250=1.11436, 1000=0.9855, 2500=0.88, 5000=0.78005 (USD); Part Status: Active; Battery Cell Size: CR123A; Battery Series: -; Mounting Type: PCB, Through Hole; Termination Style: PC Pin; Height Above Board: 0.600" (15.24mm); Operating Temperature: -50°C ~ 145°C; ComponentLink1URL: http://www.keyelco.com/product-pdf.cfm?p=5205; ComponentLink1Description: http://www.keyelco.com/product-pdf.cfm?p=5205; Supplier Part Number 1: 36-1051-ND
footprint Battery Holder
pins: 1 +, 2 -

## RES SMD 1K OHM 5% 1/10W 0603
designator R?, comment 1K
RES SMD 1K OHM 5% 1/10W 0603; Manufacturer: Yageo; Manufacturer Part Number: RC0603JR-071KL; Power (Watts): 0.1W, 1/10W; Temperature Coefficient: ±100ppm/°C; Supplier 1: Digi-Key; RoHS: RoHS Compliant; Category: Resistors; Stock 1: 566403; Pricing 1: 1=0.1, 10=0.025, 100=0.01, 1000=0.00451, 2500=0.00392 (USD); Packaging: Cut Tape (CT); Part Status: Active; Tolerance: ±5%; Composition: Thick Film; Features: Moisture Resistant; Operating Temperature: -55°C ~ 155°C; Package / Case: 0603 (1608 Metric); Supplier Device Package: 0603; Size / Dimension: 0.063" L x 0.032" W (1.60mm x 0.80mm); Height - Seated (Max): 0.022" (0.55mm); Failure Rate: -; ComponentLink1URL: http://www.yageo.com/documents/recent/PYu-RC_Group_51_RoHS_L_9.pdf; ComponentLink1Description: http://www.yageo.com/documents/recent/PYu-RC_Group_51_RoHS_L_9.pdf; Supplier Part Number 1: 311-1.0KGRCT-ND
footprint RES-0603
pins: 1, 2

## RES SMD 2M OHM 5% 1/10W 0603
designator R?, comment 2M
RES SMD 2M OHM 5% 1/10W 0603; Manufacturer: Yageo; Manufacturer Part Number: RC0603JR-072ML; Power (Watts): 0.1W, 1/10W; Temperature Coefficient: ±100ppm/°C; Supplier 1: Digi-Key; RoHS: RoHS Compliant; Category: Resistors; Stock 1: 100553; Pricing 1: 1=0.1, 10=0.025, 100=0.01, 1000=0.00451, 2500=0.00392 (USD); Packaging: Cut Tape (CT); Part Status: Active; Tolerance: ±5%; Composition: Thick Film; Features: Moisture Resistant; Operating Temperature: -55°C ~ 155°C; Package / Case: 0603 (1608 Metric); Supplier Device Package: 0603; Size / Dimension: 0.063" L x 0.032" W (1.60mm x 0.80mm); Height - Seated (Max): 0.022" (0.55mm); Failure Rate: -; ComponentLink1URL: http://www.yageo.com/documents/recent/PYu-RC_Group_51_RoHS_L_9.pdf; ComponentLink1Description: http://www.yageo.com/documents/recent/PYu-RC_Group_51_RoHS_L_9.pdf; Supplier Part Number 1: 311-2.0MGRCT-ND
footprint RES-0603
pins: 1, 2

## RES SMD 10K OHM 1% 1/10W 0603
designator R?, comment 10K
RES SMD 10K OHM 1% 1/10W 0603; Manufacturer: Stackpole Electronics Inc.; Manufacturer Part Number: RMCF0603FT10K0; Power (Watts): 0.1W, 1/10W; Temperature Coefficient: ±100ppm/°C; Supplier 1: Digi-Key; RoHS: RoHS Compliant; Category: Resistors; Stock 1: 164999; Pricing 1: 1=0.1, 10=0.017, 100=0.0069, 1000=0.00309, 2500=0.00268 (USD); Packaging: Cut Tape (CT); Part Status: Active; Tolerance: ±1%; Composition: Thick Film; Features: Automotive AEC-Q200; Operating Temperature: -55°C ~ 155°C; Package / Case: 0603 (1608 Metric); Supplier Device Package: 0603; Size / Dimension: 0.061" L x 0.031" W (1.55mm x 0.80mm); Height - Seated (Max): 0.022" (0.55mm); Failure Rate: -; ComponentLink1URL: https://www.seielect.com/Catalog/SEI-RMCF_RMCP.pdf; ComponentLink1Description: https://www.seielect.com/Catalog/SEI-RMCF_RMCP.pdf; Supplier Part Number 1: RMCF0603FT10K0CT-ND
footprint RES-0603
pins: 1, 2

## RES SMD 100K OHM 1% 1/10W 0603
designator R?, comment 100K
RES SMD 100K OHM 1% 1/10W 0603; Manufacturer: Vishay Dale; Manufacturer Part Number: CRCW0603100KFKEAC; Power (Watts): 0.1W, 1/10W; Temperature Coefficient: ±100ppm/°C; Supplier 1: Digi-Key; RoHS: RoHS Compliant; Category: Resistors; Stock 1: 305032; Pricing 1: 1=0.1, 10=0.03, 100=0.0123, 1000=0.00554, 2500=0.00481 (USD); Packaging: Cut Tape (CT); Part Status: Active; Tolerance: ±1%; Composition: Thick Film; Features: -; Operating Temperature: -55°C ~ 155°C; Package / Case: 0603 (1608 Metric); Supplier Device Package: 0603; Height - Seated (Max): 0.022" (0.55mm); Failure Rate: -; ComponentLink1URL: http://www.vishay.com/docs/28773/crcwce3.pdf; ComponentLink1Description: http://www.vishay.com/docs/28773/crcwce3.pdf; Supplier Part Number 1: 541-3950-1-ND
footprint RES-0603
pins: 1, 2

## RES SMD 330 OHM 1% 1/10W 0603
designator R?, comment 330
RES SMD 330 OHM 1% 1/10W 0603; Manufacturer: Yageo; Manufacturer Part Number: RC0603FR-07330RL; Power (Watts): 0.1W, 1/10W; Temperature Coefficient: ±100ppm/°C; Supplier 1: Digi-Key; RoHS: RoHS Compliant; Category: Resistors; Stock 1: 671835; Pricing 1: 1=0.1, 10=0.024, 100=0.0097, 1000=0.00436, 2500=0.00378 (USD); Packaging: Cut Tape (CT); Part Status: Active; Tolerance: ±1%; Composition: Thick Film; Features: Moisture Resistant; Operating Temperature: -55°C ~ 155°C; Package / Case: 0603 (1608 Metric); Supplier Device Package: 0603; Size / Dimension: 0.063" L x 0.032" W (1.60mm x 0.80mm); Height - Seated (Max): 0.022" (0.55mm); Failure Rate: -; ComponentLink1URL: http://www.yageo.com/documents/recent/PYu-RC_Group_51_RoHS_L_9.pdf; ComponentLink1Description: http://www.yageo.com/documents/recent/PYu-RC_Group_51_RoHS_L_9.pdf; Supplier Part Number 1: 311-330HRCT-ND
footprint RES-0603
pins: 1, 2

## RES SMD 470 OHM 1% 1/10W 0603
designator R?, comment 470
RES SMD 470 OHM 1% 1/10W 0603; Manufacturer: Vishay Dale; Manufacturer Part Number: CRCW0603470RFKEAC; Power (Watts): 0.1W, 1/10W; Temperature Coefficient: ±100ppm/°C; Supplier 1: Digi-Key; RoHS: RoHS Compliant; Category: Resistors; Stock 1: 46497; Pricing 1: 1=0.1, 10=0.03, 100=0.0123, 1000=0.00554, 2500=0.00481 (USD); Packaging: Cut Tape (CT); Part Status: Active; Tolerance: ±1%; Composition: Thick Film; Features: -; Operating Temperature: -55°C ~ 155°C; Package / Case: 0603 (1608 Metric); Supplier Device Package: 0603; Height - Seated (Max): 0.022" (0.55mm); Failure Rate: -; ComponentLink1URL: http://www.vishay.com/docs/28773/crcwce3.pdf; ComponentLink1Description: http://www.vishay.com/docs/28773/crcwce3.pdf; Supplier Part Number 1: 541-4038-1-ND
footprint RES-0603
pins: 1, 2

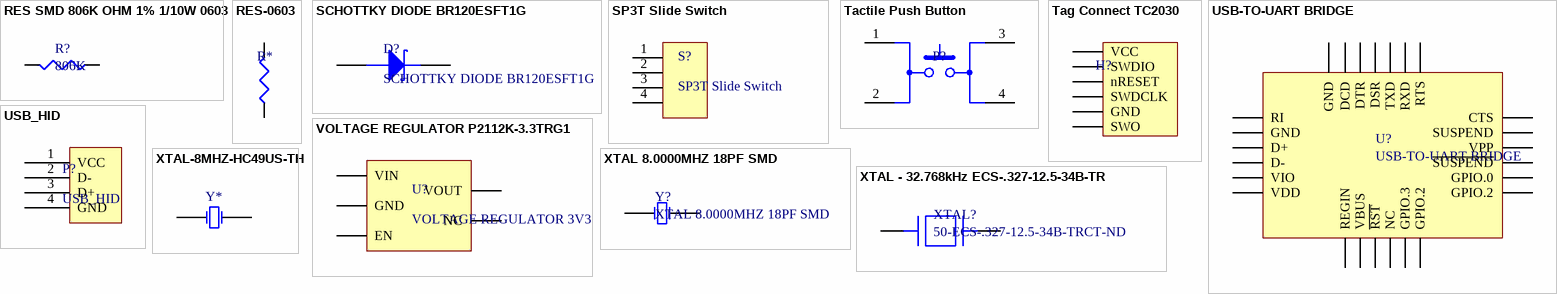
[diagram p1: symbols RES SMD 806K OHM 1% 1/10W 0603 to XTAL-8MHZ-HC49US-TH]

## RES SMD 806K OHM 1% 1/10W 0603
designator R?, comment 806K
RES SMD 806K OHM 1% 1/10W 0603; Manufacturer: Yageo; Manufacturer Part Number: RC0603FR-07806KL; Power (Watts): 0.1W, 1/10W; Temperature Coefficient: ±100ppm/°C; Supplier 1: Digi-Key; RoHS: RoHS Compliant; Category: Resistors; Stock 1: 92143; Pricing 1: 1=0.1, 10=0.03, 100=0.0121, 1000=0.00546, 2500=0.00474 (USD); Packaging: Cut Tape (CT); Part Status: Active; Tolerance: ±1%; Composition: Thick Film; Features: Moisture Resistant; Operating Temperature: -55°C ~ 155°C; Package / Case: 0603 (1608 Metric); Supplier Device Package: 0603; Size / Dimension: 0.063" L x 0.032" W (1.60mm x 0.80mm); Height - Seated (Max): 0.022" (0.55mm); Failure Rate: -; ComponentLink1URL: http://www.yageo.com/documents/recent/PYu-RC_Group_51_RoHS_L_9.pdf; ComponentLink1Description: http://www.yageo.com/documents/recent/PYu-RC_Group_51_RoHS_L_9.pdf; Supplier Part Number 1: 311-806KHRCT-ND
footprint RES-0603
pins: 1, 2

## RES-0603
designator R*
footprint RES-0603
pins: 1, 2

## SCHOTTKY DIODE BR120ESFT1G
designator D?
DIODE SCHOTTKY 20V 1A SOD123L; Manufacturer: ON Semiconductor; Manufacturer Part Number: MBR120ESFT1G; Speed: Fast Recovery =< 500ns, > 200mA (Io); Supplier 1: Digi-Key; RoHS: RoHS Compliant; Category: Discrete Semiconductor Products; Stock 1: 2622; Pricing 1: 1=0.44, 10=0.332, 100=0.2071, 500=0.14172, 1000=0.10901 (USD); Packaging: Cut Tape (CT); Part Status: Active; Diode Type: Schottky; Current - Average Rectified (Io): 1A; Capacitance @ Vr, F: -; Mounting Type: Surface Mount; Package / Case: SOD-123F; Supplier Device Package: SOD-123L; Operating Temperature - Junction: -65°C ~ 150°C; Base Part Number: MBR120; ComponentLink1URL: http://www.onsemi.com/pub/Collateral/MBR120ESFT1-D.PDF; ComponentLink1Description: http://www.onsemi.com/pub/Collateral/MBR120ESFT1-D.PDF; Supplier Part Number 1: MBR120ESFT1GOSCT-ND
footprint SCHOTTKY SOD-123
pins: 1 A, 2 K

## SP3T Slide Switch
designator S?
SWITCH SLIDE SP3T 300MA 125V; Manufacturer: TE Connectivity ALCOSWITCH Switches; Manufacturer Part Number: 1825255-7; Contact Timing: Shorting (MBB); Switch Function: On-On-On; Current Rating: 300mA (AC); Actuator Type: Standard; Actuator Length: 4.50mm; Actuator Material: Polyoxymethylene (Acetal) (POM); Switch Travel: 2.00mm; Mechanical Life: 15,000 Cycles; Operating Force: 600gf; Supplier 1: Digi-Key; RoHS: RoHS Compliant; Category: Switches; Stock 1: 3106; Pricing 1: 1=1.5, 10=1.436, 25=1.4056, 50=1.2222, 100=1.1917, 250=1.16112, 500=0.9778, 1000=0.91668, 5000=0.84029 (USD); Packaging: Bulk; Part Status: Active; Circuit: SP3T; Contact Material: Copper Alloy; Contact Finish: Silver; Mounting Type: Through Hole; Termination Style: PC Pin; Features: Epoxy Sealed Terminals; Operating Temperature: -20°C ~ 85°C; Electrical Life: 15,000 Cycles; ComponentLink1URL: http://www.te.com/commerce/DocumentDelivery/DDEController?Action=srchrtrv&DocNm=1825255&DocType=Customer+Drawing&DocLang=English; ComponentLink1Description: http://www.te.com/commerce/DocumentDelivery/DDEController?Action=srchrtrv&DocNm=1825255&DocType=Customer+Drawing&DocLang=English; Supplier Part Number 1: 450-1570-ND
footprint SP3T Slider Switch
pins: 1, 2, 3, 4

## Tactile Push Button
designator P?  (value not drawn)
MULTICOMP - MCDTS2-4N - SWITCH, TACTILE SPST-NO 50mA, SOLDER LUG; Illumination: Non Illuminated; Contact Voltage DC Nom: 12; Contact Current Max: 50; Operating Force: 160; Product Range: MCDTS2 Series; Actuation Type: Top; Supplier 1: Newark; Manufacturer: MULTICOMP; Manufacturer Part Number: MCDTS2-4N; RoHS: YES; Stock 1: 187; Pricing 1: 1=0.342, 25=0.305, 50=0.266, 100=0.224, 250=0.164 (USD); Switch Terminals: Solder; ComponentLink1URL: http://www.farnell.com/datasheets/1662341.pdf; ComponentLink1Description: http://www.farnell.com/datasheets/1662341.pdf; Supplier Part Number 1: 26M1119
footprint Tactile Push Button
pins: 1, 2, 3, 4

## Tag Connect TC2030
designator H?, comment TC2030  (value not drawn)
pins: 1 VCC, 2 SWDIO, 3 nRESET, 4 SWDCLK, 5 GND, 6 SWO

## USB-TO-UART BRIDGE
designator U?
IC SGL USB-TO-UART BRIDGE 24QFN; Manufacturer: Silicon Labs; Manufacturer Part Number: CP2104-F03-GMR; Protocol: USB; Function: Bridge, USB to UART; Interface: UART; Standards: USB 2.0; Voltage - Supply: 1.8V, 3 V ~ 3.6 V; Current - Supply: 17mA; Supplier 1: Digi-Key; RoHS: RoHS Compliant; Category: Integrated Circuits (ICs); Stock 1: 11600; Pricing 1: 1=1.65, 25=1.5864, 100=1.5836 (USD); Packaging: Cut Tape (CT); Part Status: Not For New Designs; Operating Temperature: -40°C ~ 85°C; Package / Case: 24-WFQFN Exposed Pad; Supplier Device Package: 24-QFN (4x4); Base Part Number: CP2104; ComponentLink1URL: http://www.silabs.com/documents/public/errata/CP2104Errata.pdf; ComponentLink1Description: http://www.silabs.com/documents/public/errata/CP2104Errata.pdf; Supplier Part Number 1: 336-4146-1-ND
footprint USB-UART (QFN, 24-Leads, Body 4.00x4.00mm, Pitch 0.50mm, Thermal Pad 2.75x2.75mm, IPC Low Density)
pins: 1 RI, 2 GND, 3 D+, 4 D-, 5 VIO, 6 VDD, 7 REGIN, 8 VBUS, 9 ~{RST}, 10 NC, 11 GPIO.3, 12 GPIO.2, 13 GPIO.2, 14 GPIO.0, 15 ~{SUSPEND}, 16 VPP, 17 SUSPEND, 18 CTS, 19 RTS, 20 RXD, 21 TXD, 22 DSR, 23 DTR, 24 DCD, 25 GND

## USB_HID
designator P?
USB - A USB 2.0 Receptacle Connector 4 Position Through Hole, Right Angle, Horizontal; Manufacturer: Amphenol Commercial; Manufacturer Part Number: UE27-AC54-100; Number of Contacts: 4; Number of Ports: 1; Max Voltage Rating (AC): 30V; Supplier 1: Digi-Key; Stock 1: 30717; Pricing 1: 1=0.4, 10=0.378, 25=0.3404, 50=0.3024, 100=0.2898, 250=0.2646, 500=0.252, 1000=0.2079, 2500=0.189 (USD); Mount: Through Hole,Horizontal; Case/Package: Module; Contact Plating: Nickel,Tin,Gold; Contact Material: Nickel,Copper Alloy; Colour: Black; Number of Terminals: 4; Housing Material: Thermoplastic; Min Operating Temperature: -55°C; Max Operating Temperature: 85°C; Package Quantity: 120; Packaging: Tray; Gender: Receptacle; Connector Type: USB; Number of Positions: 4; Termination: Solder; Orientation: Right Angle; Length: 14.5mm; Depth: 13.85mm; Radiation Hardening: No; REACH SVHC: Unknown; Lead Free: Lead Free; Flammability Rating: UL94 V-0; ComponentLink1URL: https://datasheet.ciiva.com/3095/usb-cat-3095736.pdf; ComponentLink1Description: https://datasheet.ciiva.com/3095/usb-cat-3095736.pdf; ComponentLink2URL: https://datasheet.ciiva.com/16668/usb-cat-16668272.pdf; ComponentLink2Description: https://datasheet.ciiva.com/16668/usb-cat-16668272.pdf; ComponentLink3URL: https://datasheet.ciiva.com/851/ue27acx4x0x-851297.pdf; ComponentLink3Description: https://datasheet.ciiva.com/851/ue27acx4x0x-851297.pdf; ComponentLink4URL: https://datasheet.ciiva.com/12494/ue27acx4x0x-45641-12494043.pdf; ComponentLink4Description: https://datasheet.ciiva.com/12494/ue27acx4x0x-45641-12494043.pdf; Supplier Part Number 1: UE27AC54100-ND
footprint USB_HID
pins: 1 VCC, 2 D-, 3 D+, 4 GND